# Altium footprint library SOD80C.PcbLib: 1 footprints
Each footprint in its own frame and in the unit in brackets; x right, y up, seen from the top. Pads: shape width x height; smd on the part's side, far side on the other; paste and mask are expansions set on the pad; w line width, h text height; cw(c..) or ccw(c..) is an arc to the next point about the centre after c.
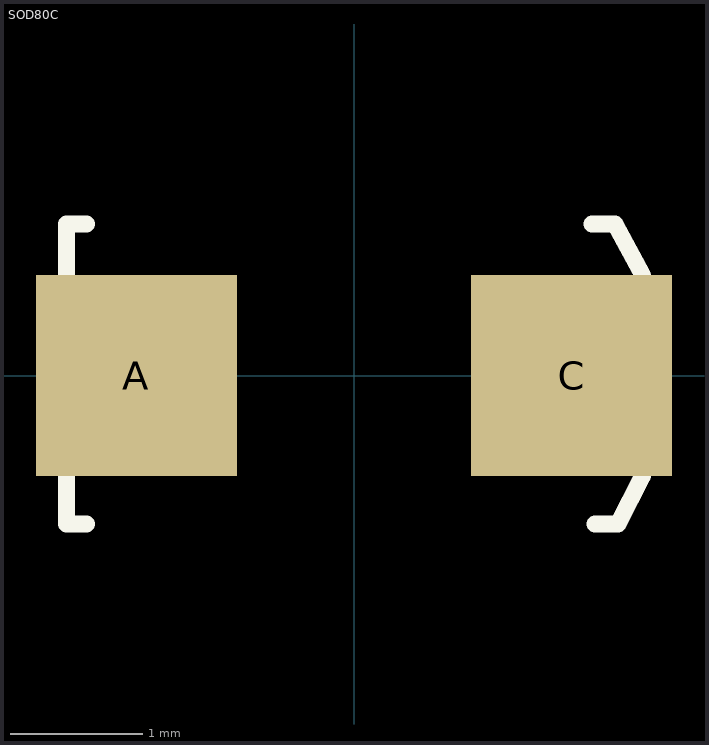
[diagram p0: the footprint, top view; thin cyan lines are the x and y axes]

## SOD80C [mil] "SOD80C"
height 62.99
pads (2):
  rect 60x60 smd: A(-65,0) C(65,0)
Top Overlay:
  lines w5: -79.9,-44.29 -85.8,-44.29 -85.8,45.28 -79.9,45.28 ; 71.01,45.28 77.9,45.28 86.2,30 86.2,-30 78.88,-44.29 71.99,-44.29
3D body: height 63.22, standoff 0.23, extent -72.83,-31.5 72.83,31.5